# Altium schematic symbol library sch_Power.SchLib: 29 symbols
Pins are listed as number, name and electrical type; pins without a type are passive.

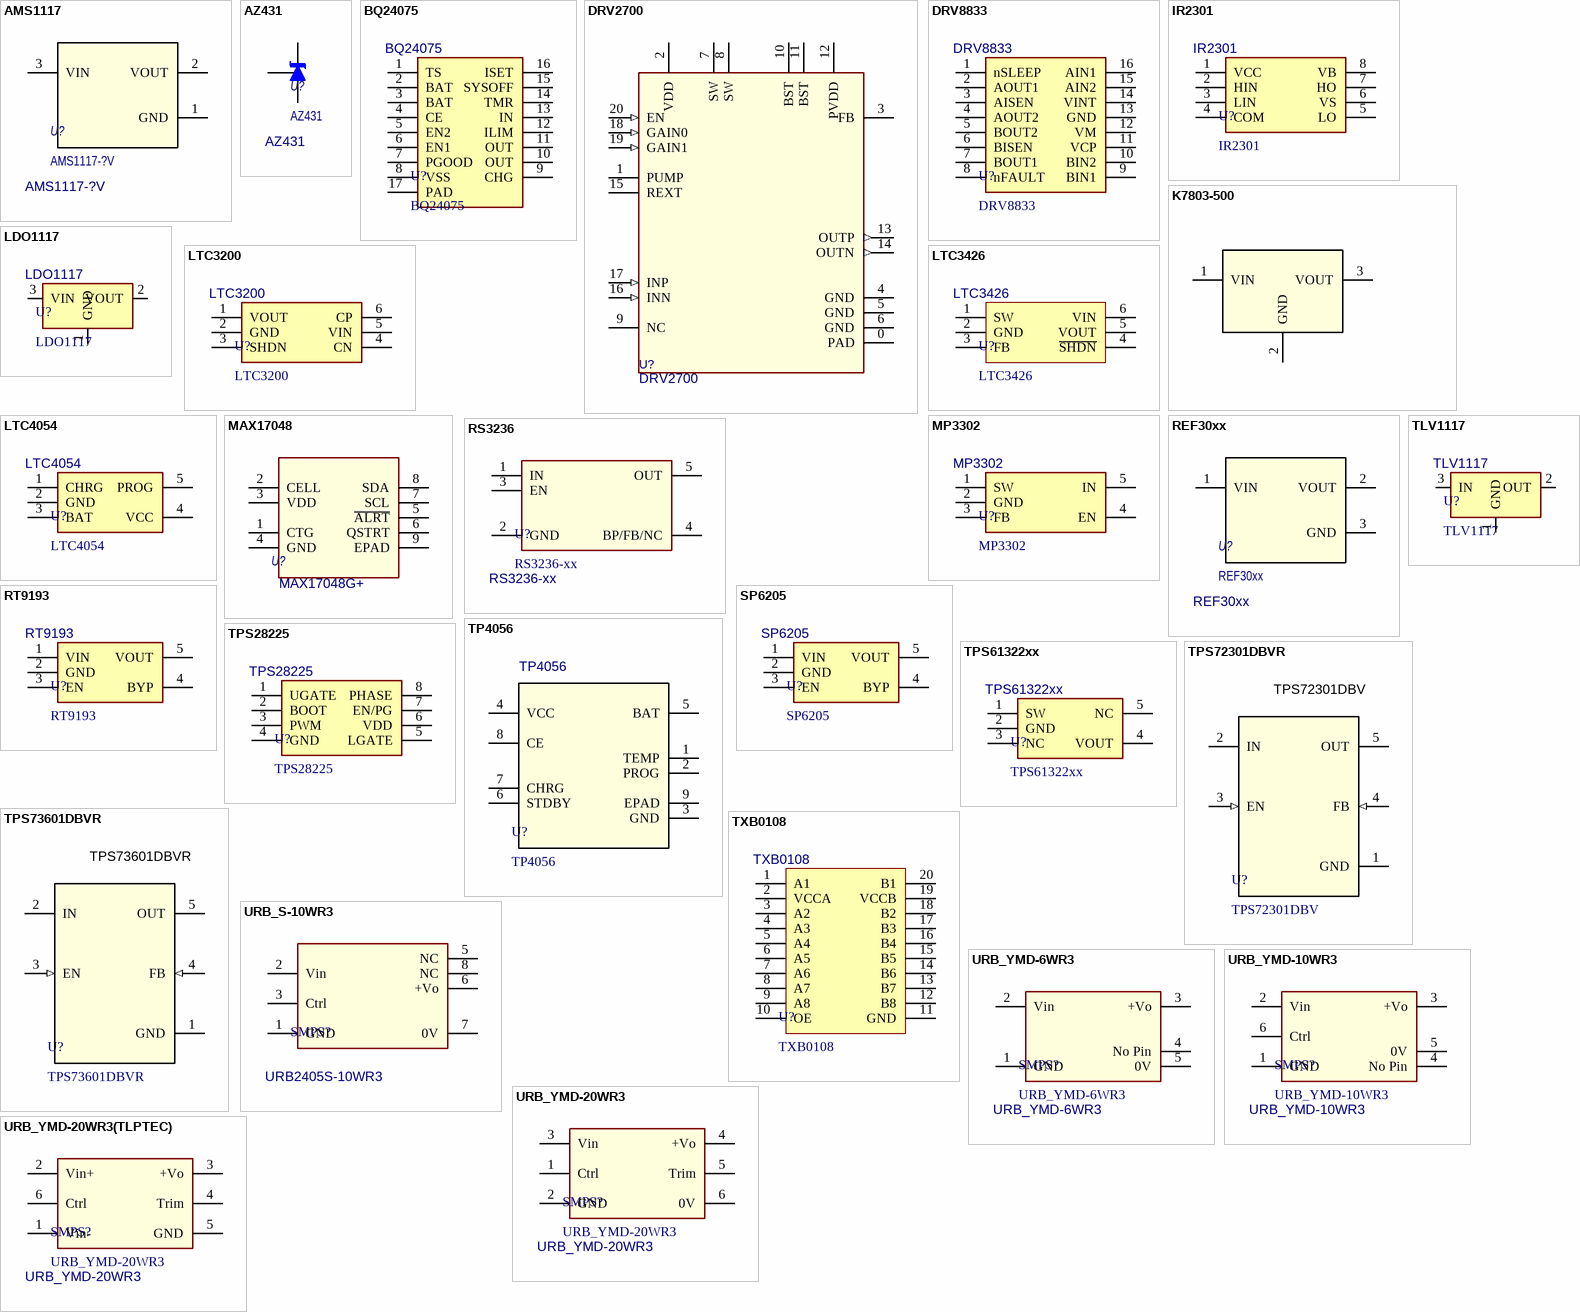
[diagram p0: symbols AMS1117 to URB_YMD-20WR3(TLPTEC)]

## AMS1117
designator U?, comment AMS1117-?V
LDO; MFR: Mfr?; Package: SOT-223-3; PartNumber: AMS1117-?V
footprint SOT223-3_L6.5-W3.5-P2.3
pins: 1 GND, 2 VOUT, 3 VIN

## AZ431
designator U?
Voltage reference source; MFR: TI; Package: SOT-23; PartNumber: AZ431
footprint SOT23-3_L2.9-W1.3-P1.9
pins: 1 REF, 2 CATHODE, 3 ANODE

## BQ24075
designator U?
Power; Type: QFN16 P0.5; PartNumber: BQ24075
footprint QFN-16_L4.0-W4.0-P0.65-EP
pins: 1 TS, 2 BAT, 3 BAT, 4 CE, 5 EN2, 6 EN1, 7 PGOOD, 8 VSS, 9 CHG, 10 OUT, 11 OUT, 12 ILIM, 13 IN, 14 TMR, 15 SYSOFF, 16 ISET, 17 PAD

## DRV2700
designator U?
MFR: TI; Package: QFN20-EP(4x4); PartNumber: DRV2700
footprint QFN-20_L4.0-W4.0-P0.5-EP
pins: 0 PAD, 1 PUMP, 2 VDD, 3 FB, 4 GND (power), 5 GND (power), 6 GND (power), 7 SW (oc), 8 SW (oc), 9 NC, 10 BST (power), 11 BST (power), 12 PVDD (power), 13 OUTP (out), 14 OUTN (out), 15 REXT, 16 INN (in), 17 INP (in), 18 GAIN0 (in), 19 GAIN1 (in), 20 EN (in)

## DRV8833
designator U?
H-Bridge; Package: *; PartNumber: DRV8833
footprint TSSOP-16_L5.0-W4.4-P0.65
pins: 1 nSLEEP, 2 AOUT1, 3 AISEN, 4 AOUT2, 5 BOUT2, 6 BISEN, 7 BOUT1, 8 nFAULT, 9 BIN1, 10 BIN2, 11 VCP, 12 VM, 13 GND, 14 VINT, 15 AIN2, 16 AIN1

## IR2301
designator U?
MOSFET Driver; Package: *; PartNumber: IR2301
footprint SOP-8_L5.0-W3.8-P1.27
pins: 1 VCC, 2 HIN, 3 LIN, 4 COM, 5 LO, 6 VS, 7 HO, 8 VB

## K7803-500
designator U?, comment K7803-500R3
3.3V DCDC Module; MFR: MORNSUN; Package: SIP3; PartNumber: K7803-500R3
pins: 1 VIN, 2 GND, 3 VOUT

## LDO1117
designator U?
Power; Package: SOT223-3; PartNumber: LDO1117
footprint SOT223-3_L6.5-W3.5-P2.3
pins: 1 GND, 2 VOUT, 3 VIN

## LTC3200
designator U?
Power; Package: SOT23-6; PartNumber: LTC3200
footprint SOT23-6_L2.9-W1.6-P0.95
pins: 1 VOUT, 2 GND, 3 SHDN, 4 CN, 5 VIN, 6 CP

## LTC3426
designator U?
Power; Package: SOT23-6; PartNumber: LTC3426
footprint SOT23-6_L2.9-W1.6-P0.95
pins: 1 SW, 2 GND, 3 FB, 4 ~{SHDN}, 5 VOUT, 6 VIN

## LTC4054
designator U?
Battery Charger; Package: SOT23-5; PartNumber: LTC4054
footprint SOT23-5_L2.9-W1.6-P0.95
pins: 1 CHRG, 2 GND, 3 BAT, 4 VCC, 5 PROG

## MAX17048
designator U?, comment MAX17048G+
Gauge; MFR: ADI/MAXIM; Package: TDFN-8-EP; PartNumber: MAX17048G+
pins: 1 CTG, 2 CELL, 3 VDD, 4 GND, 5 ~{ALRT}, 6 QSTRT, 7 SCL, 8 SDA, 9 EPAD

## MP3302
designator U?
WLED Driver; PartNumber: MP3302
footprint SOT23-5_L2.9-W1.6-P0.95
pins: 1 SW, 2 GND, 3 FB, 4 EN, 5 IN

## REF30xx
designator U?
Voltage reference source; MFR: TI; Package: SOT-23; PartNumber: REF30xx
footprint SOT23-3_L2.9-W1.3-P1.9
pins: 1 VIN, 2 VOUT, 3 GND

## RS3236
designator U?, comment RS3236-xx
RUNIC LDO 500mA; MFR: RUNIC; Package: SOT23-5; PartNumber: RS3236-xx
footprint SOT23-5_L2.9-W1.6-P0.95
pins: 1 IN, 2 GND, 3 EN, 4 BP/FB/NC, 5 OUT

## RT9193
designator U?
Power; Package: SOT23-5; PartNumber: RT9193
footprint SOT23-5_L2.9-W1.6-P0.95
pins: 1 VIN, 2 GND, 3 EN (power), 4 BYP, 5 VOUT

## SP6205
designator U?
Power; Package: SOT23-5; PartNumber: SP6205
footprint SOT23-5_L2.9-W1.6-P0.95
pins: 1 VIN, 2 GND, 3 EN (power), 4 BYP, 5 VOUT

## TLV1117
designator U?
Power; Package: *; PartNumber: TLV1117
footprint SOT223-3_L6.5-W3.5-P2.3
pins: 1 GND (power), 2 OUT (power), 3 IN (power)

## TP4056
designator U?
Li Battary Charger; Package: SOT223-3; PartNumber: TP4056
footprint SOP-8_L5.0-W3.8-P1.27-EP
pins: 1 TEMP, 2 PROG, 3 GND (power), 4 VCC (power), 5 BAT, 6 STDBY, 7 CHRG, 8 CE, 9 EPAD (power)

## TPS28225
designator U?
MOSFET Driver; Package: *; PartNumber: TPS28225
footprint SOP-8_L5.0-W3.8-P1.27
pins: 1 UGATE, 2 BOOT, 3 PWM, 4 GND, 5 LGATE, 6 VDD, 7 EN/PG, 8 PHASE

## TPS61322xx
designator U?
Power; Package: SOT23-5; PartNumber: TPS61322xx
footprint SOT23-5_L2.9-W1.6-P0.95
pins: 1 SW, 2 GND, 3 NC, 4 VOUT, 5 NC

## TPS72301DBVR
designator U?, comment TPS72301DBV
LDO NEG ADJ; MFR: Texas Instruments; Package: SOT23-5(DBV0005A); PartNumber: TPS72301DBV
footprint SOT23-5_L2.9-W1.6-P0.95
pins: 1 GND (power), 2 IN (power), 3 EN (in), 4 FB (in), 5 OUT (power)

## TPS73601DBVR
designator U?
LDO POS ADJ; MFR: Texas Instruments; Package: SOT23-5(DBV0005A); PartNumber: TPS73601DBVR
footprint SOT23-5_L2.9-W1.6-P0.95
pins: 1 GND (power), 2 IN (power), 3 EN (in), 4 FB (in), 5 OUT (power)

## TXB0108
designator U?
VoltageLevel; Package: *; PartNumber: TXB0108
footprint TSSOP-20_L6.5-W4.4-P0.65
pins: 1 A1, 2 VCCA, 3 A2, 4 A3, 5 A4, 6 A5, 7 A6, 8 A7, 9 A8, 10 OE, 11 GND, 12 B8, 13 B7, 14 B6, 15 B5, 16 B4, 17 B3, 18 B2, 19 VCCB, 20 B1

## URB_S-10WR3
designator SMPS?, comment URB2405S-10WR3
MORNSUN DCDC; MFR: MORNSUN; Package: SIP8; PartNumber: URB2405S-10WR3
footprint PWRM-TH_URB-S-10WR3
pins: 1 GND, 2 Vin, 3 Ctrl, 5 NC, 6 +Vo, 7 0V, 8 NC

## URB_YMD-6WR3
designator SMPS?
MORNSUN; MFR: MORNSUN; Package: DIP; PartNumber: URB_YMD-6WR3
footprint PWRM-TH_URB-YMD-6WR3
pins: 1 GND, 2 Vin, 3 +Vo, 4 No Pin, 5 0V

## URB_YMD-10WR3
designator SMPS?
MORNSUN; MFR: MORNSUN; Package: DIP; PartNumber: URB_YMD-10WR3
footprint PWRM-TH_URB-YMD-10WR3
pins: 1 GND, 2 Vin, 3 +Vo, 4 No Pin, 5 0V, 6 Ctrl

## URB_YMD-20WR3
designator SMPS?
MORNSUN; MFR: MORNSUN; Package: DIP; PartNumber: URB_YMD-20WR3
footprint PWRM-TH_URB-YMD-20WR3
pins: 1 Ctrl, 2 GND, 3 Vin, 4 +Vo, 5 Trim, 6 0V

## URB_YMD-20WR3(TLPTEC)
designator SMPS?, comment URB_YMD-20WR3
TLPTEC; MFR: YLPTEC; Package: DIP; PartNumber: URB_YMD-20WR3
footprint PWRM-TH_URB-YMD-20WR3_TLPTEC
pins: 1 Vin-, 2 Vin+, 3 +Vo, 4 Trim, 5 GND, 6 Ctrl